# EAGLE library part SPARKFUN_LUMINI_8X8_COM-15247 (library mood-badge-components)
SparkFun LuMini LED Matrix - 8x8 (64 x APA102-2020) https://www.sparkfun.com/products/15047 This is the 8x8 SparkFun LuMini LED Matrix, packed with 64 individually addressable LEDs, each capable of producing 16 million colors, it provides you with a great way to add a square of light to just about anything, or even make a screen of a custom shape! LuMini is a miniaturized version of our Lumenati LED line but instead of utilizing 5mm by 5mm APA102 LEDs (APA102-5050), LuMini uses a 2mm by 2mm package (APA102-2020). This allows for incredibly tight pixel densities, and thus, a screen with less pixelation! The LuMini LED Matrix is powered and controlled using a few solder pads on the back of each board. These pads include 5V and ground, a set of pads for data in and clock input, and another set for data out and clock output. Since the matrix acts like a string of LEDs, the indexing (or numbering) of the LEDs moves from left to right, bottom to top of the board, on the LED facing side. The last handy feature we've equipped the LuMini LED Matrix with is four detachable mounting points that can be used to secure your ring to a surface/project or be broken off to make more complex designs. However if you want to break off the mounting holes from the board, multiple matrices can be soldered together to form a larger display! Note: In larger installations you may need to add a decoupling capacitor between power and ground to prevent voltage dips when turning on a whole bunch of LED’s simultaneously. We recommend using a 4.7µF capacitor which we sell in strips of 10.
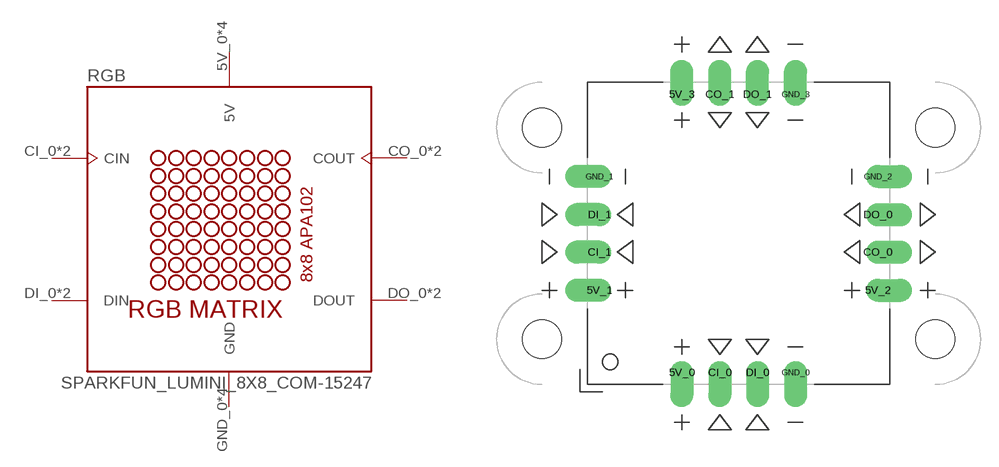
[diagram p1: symbol with the pads of SPARKFUN_LUMINI_8X8_COM-15047; footprint SPARKFUN_LUMINI_8X8_COM-15047]

Designator prefix RGB

## SPARKFUN_LUMINI_8X8_COM-15247  [SPARKFUN_LUMINI_8X8_COM-15047]
5V_0  5V  pwr
5V_1  5V  pwr
5V_2  5V  pwr
5V_3  5V  pwr
CI_0  CIN  in
CI_1  CIN  in
CO_0  COUT  out
CO_1  COUT  out
DI_0  DIN  in
DI_1  DIN  in
DO_0  DOUT  out
DO_1  DOUT  out
GND_0  GND  pwr
GND_1  GND  pwr
GND_2  GND  pwr
GND_3  GND  pwr

## Footprint SPARKFUN_LUMINI_8X8_COM-15047 (pad centres in mm)
drill 0.65 pad 1.93 offset: 5V_0 -4.775,-11.684; 5V_1 -11.684,-4.775; 5V_2 11.684,-4.775; 5V_3 -4.775,11.684; CI_0 -1.575,-11.684; CI_1 -11.684,-1.575; CO_0 11.684,-1.575; CO_1 -1.575,11.684; DI_0 1.575,-11.684; DI_1 -11.684,1.575; DO_0 11.684,1.575; DO_1 1.575,11.684; GND_0 4.775,-11.684; GND_1 -11.684,4.775; GND_2 11.684,4.775; GND_3 4.775,11.684
hole 3.251 at -16.51,-8.89
hole 3.251 at 16.51,-8.89
hole 3.251 at 16.51,8.89
hole 3.251 at -16.51,8.89